# Altium footprint library Opto.PcbLib: 16 footprints
Each footprint in its own frame and in the unit in brackets; x right, y up, seen from the top. Pads: shape width x height; smd on the part's side, far side on the other; paste and mask are expansions set on the pad; w line width, h text height; cw(c..) or ccw(c..) is an arc to the next point about the centre after c.
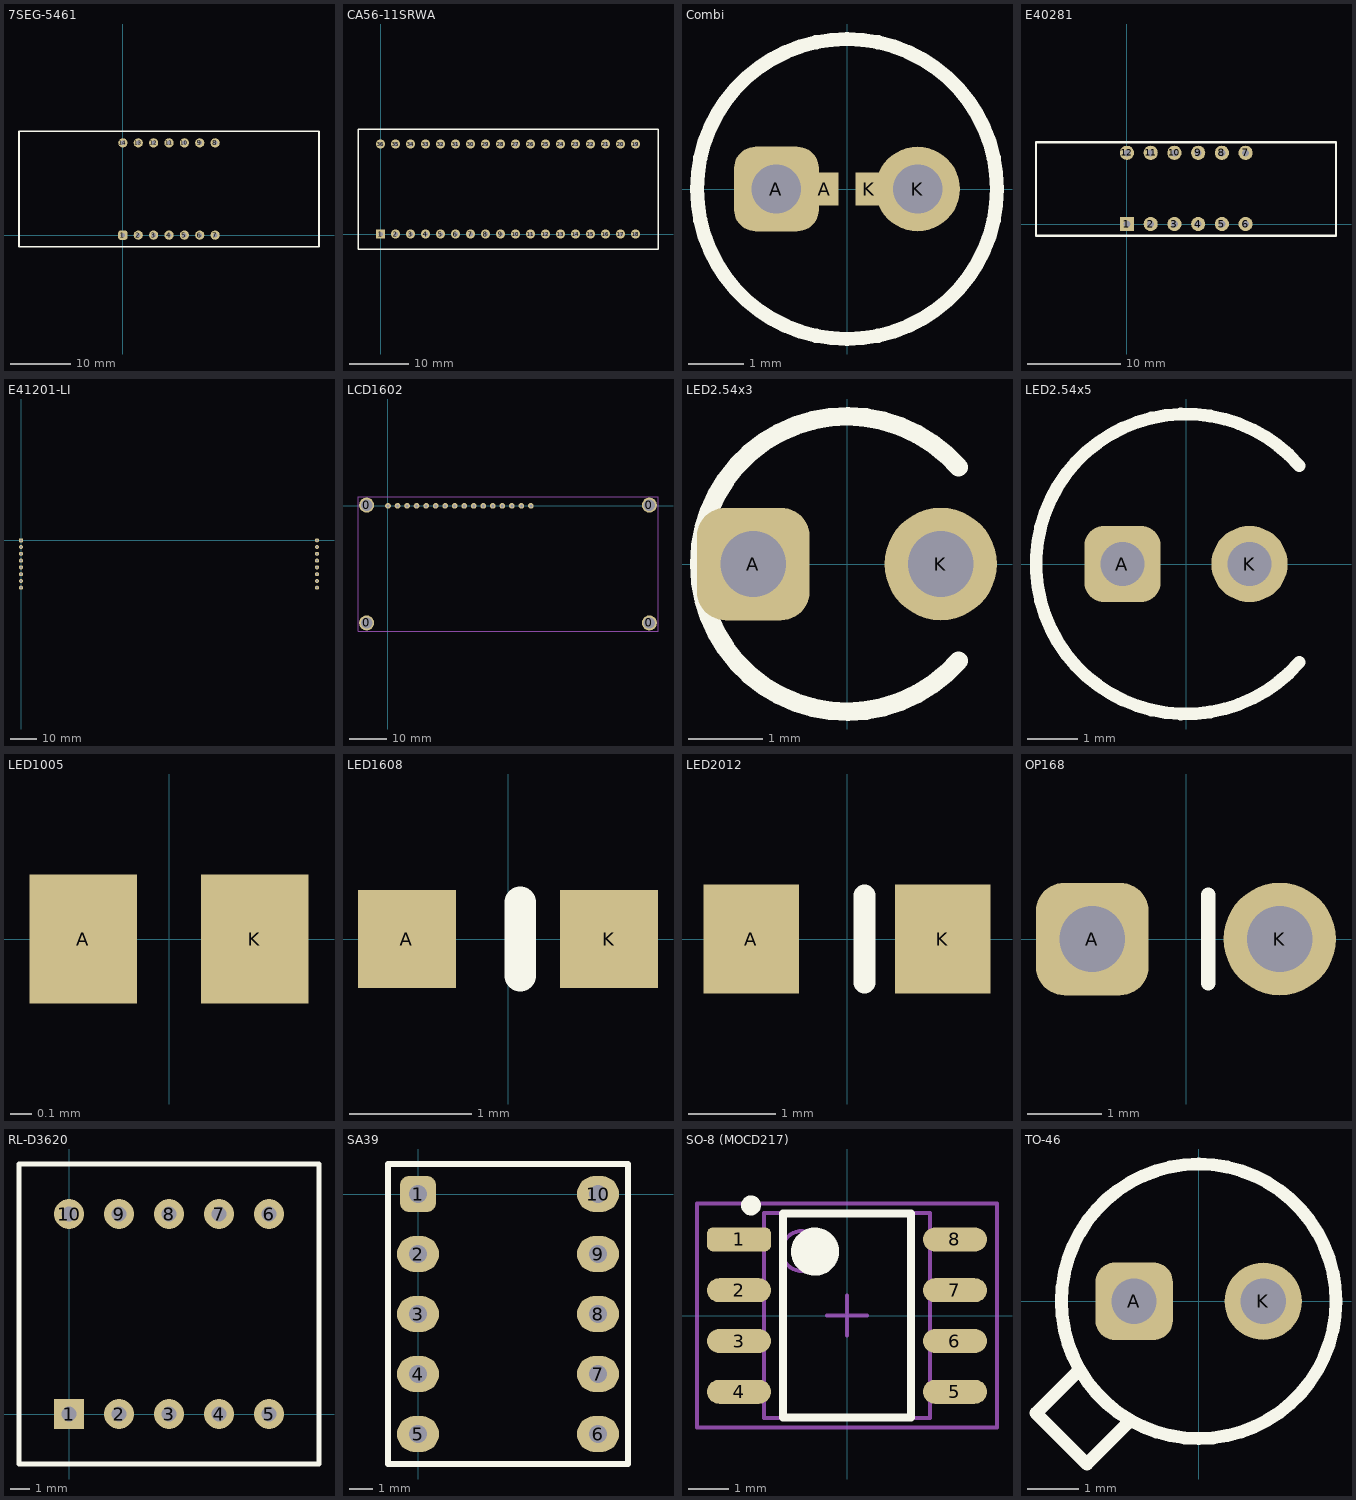
[diagram p0: the footprints below, top view; thin cyan lines are the x and y axes]

## 7SEG-5461 [mil] "0.56 inch Red 4 Digit 5461 LED Display 7 seg Common Anode"
height 307.09
pads (14):
  rrect50% 60x60 hole 30: 1(0,0)
  round 60 hole 30: 2(100,0) 3(200,0) 4(300,0) 5(400,0) 6(500,0) 7(600,0) 8(600,600) 9(500,600) 10(400,600) 11(300,600) 12(200,600) 13(100,600) 14(0,600)
Top Overlay:
  lines w10: -675,-75 1275,-75 1275,675 -675,675 -675,-75

## CA56-11SRWA [mil] "14.2mm(0.56inch) four digit numeric display"
height 318.9
pads (36):
  rect 60x60 hole 30: 1(0,0)
  round 60 hole 30: 2(100,0) 3(200,0) 4(300,0) 5(400,0) 6(500,0) 7(600,0) 8(700,0) 9(800,0) 10(900,0) 11(1000,0) 12(1100,0) 13(1200,0) 14(1300,0) 15(1400,0) 16(1500,0) 17(1600,0) 18(1700,0) 19(1700,600) 20(1600,600) 21(1500,600) 22(1400,600) 23(1300,600) 24(1200,600) 25(1100,600) 26(1000,600) 27(900,600) 28(800,600) 29(700,600) 30(600,600) 31(500,600) 32(400,600) 33(300,600) 34(200,600) 35(100,600) 36(0,600)
Top Overlay:
  lines w10: -150,-100 1850,-100 1850,700 -150,700 -150,-100
3D body: height 334.65, standoff 0, extent -150,-100 1850,700

## Combi [mil] "SMD+TH patern"
height 157.48
pads (4):
  rrect50% 60x60 hole 35: A(-50,0)
  rect 19.68x23.62 smd: A(-15.75,0) K(15.75,0)
  round 60 hole 35: K(50,0)
Top Overlay:
  circle w10: c0,0 r106.3

## E40281 [mil] "7mm (0.28'') four digit numeric display"
height 318.9
pads (12):
  rect 60x60 hole 30: 1(0,0)
  round 60 hole 30: 2(100,0) 3(200,0) 4(300,0) 5(400,0) 6(500,0) 7(500,300) 8(400,300) 9(300,300) 10(200,300) 11(100,300) 12(0,300)
Top Overlay:
  lines w10: -383.07,-49.21 880.71,-49.21 880.71,344.49 -383.07,344.49 -383.07,-49.21
3D body: height 228.35, standoff 0, extent -383.07,-49.21 880.71,344.49

## E41201-LI [mil] "7-segment LED clock display"
height 354.33
pads (16):
  rrect50% 60x60 hole 30: 1(0,0)
  round 60 hole 30: 2(0,-100) 3(0,-200) 4(0,-300) 5(0,-400) 6(0,-500) 7(0,-600) 8(0,-700) 9(4370.08,-700) 10(4370.08,-600) 11(4370.08,-500) 12(4370.08,-400) 13(4370.08,-300) 14(4370.08,-200) 15(4370.08,-100) 16(4370.08,0)
3D body: height 374.02, standoff 0, extent -177.17,-1153.54 4547.24,452.76

## LCD1602 [mil] "16x02 LCD"
height 433.07
pads (20):
  round 157.48 hole 118.11: 0(-224.41,-1228.35) 0(-224.41,7.87) 0(2744.09,-1228.35) 0(2744.09,7.87)
  round 60 hole 30: 1(0,0) 2(100,0) 3(200,0) 4(300,0) 5(400,0) 6(500,0) 7(600,0) 8(700,0) 9(800,0) 10(900,0) 11(1000,0) 12(1100,0) 13(1200,0) 14(1300,0) 15(1400,0) 16(1500,0)
Mechanical 1:
  lines w10: -314.96,98.43 2834.65,98.43 2834.65,-1318.9 -314.96,-1318.9 -314.96,98.43 ; -314.96,98.43 -314.96,98.43 ; -314.96,98.43 -314.96,98.43
3D body: height 433.07, standoff 0, extent -314.96,-1318.9 2834.65,98.43

## LED2.54x3 [mil] "LED 2.54 p-p 3x5mm (DxH)"
pads (2):
  rrect50% 60x60 hole 35: A(-50,0)
  round 60 hole 35: K(50,0)
Top Overlay:
  lines w10: 59.5,-51.57 cw(c0,0) 59.5,51.57
3D body: height 196.85, standoff 0, extent -78.74,-82.61 59.06,74.73

## LED2.54x5 [mil] "LED 2.54 p-p 5x8.6mm (DxH)"
pads (2):
  rrect50% 60x60 hole 35: A(-50,0)
  round 60 hole 35: K(50,0)
Top Overlay:
  lines w10: 89.26,-77.35 cw(c0,0) 89.26,77.35
3D body: height 338.58, standoff 0, extent -119.09,-118.11 95.47,114.12

## LED1005 [mm] "LED 1.0x0.5mm"
pads (2):
  rect 0.5x0.6 smd: A(-0.4,0) K(0.4,0)
3D body: height 0.1, standoff 0, extent -0.5,-0.25 0.5,0.25
3D body: height 0.4, standoff 0.1, extent -0.4,-0.25 0.4,0.25

## LED1608 [mm] "LED 1.6x0.8mm"
pads (2):
  rect 0.8x0.8 smd: A(-0.825,0) K(0.825,0)
Top Overlay:
  lines w0.254: 0.1,-0.3 0.1,0.3
3D body: height 0.1, standoff 0, extent -0.8,-0.4 0.8,0.4
3D body: height 0.4, standoff 0.1, extent -0.6,-0.4 0.6,0.4

## LED2012 [mm] "LED 2.0x1.2mm"
pads (2):
  rect 1.1x1.25 smd: A(-1.1,0) K(1.1,0)
Top Overlay:
  lines w0.254: 0.2,-0.5 0.2,0.5
3D body: height 0.1, standoff 0, extent -1,-0.625 1,0.625
3D body: height 0.4, standoff 0.1, extent -0.65,-0.625 0.65,0.625

## OP168 [mil] "2.54 p-p (1.52x4.06x3.24)mm"
height 157.48
pads (2):
  rrect50% 60x60 hole 35: A(-50,0)
  round 60 hole 35: K(50,0)
Top Overlay:
  lines w7.87: 11.81,-23.62 11.81,23.62
3D body: height 127.56, standoff 0, extent -78.74,-31.5 78.74,31.5

## RL-D3620 [mil] "Two digit numeric display"
height 318.9
pads (10):
  rect 60x60 hole 30: 1(0,0)
  round 60 hole 30: 2(100,0) 3(200,0) 4(300,0) 5(400,0) 6(400,400) 7(300,400) 8(200,400) 9(100,400) 10(0,400)
Top Overlay:
  lines w10: -100,-100 500,-100 500,500 -100,500 -100,-100
3D body: height 283.46, standoff 0, extent -100,-100 500,500

## SA39 [mil] "9.9mm (0.39INCH) SINGLE DIGIT NUMERIC DISPLAY"
pads (10):
  rrect50% 60x60 hole 30: 1(0,0)
  oval 70x60 hole 30: 2(0,-100) 3(0,-200) 4(0,-300) 5(0,-400) 6(300,-400) 7(300,-300) 8(300,-200) 9(300,-100) 10(300,0)
Top Overlay:
  lines w10: -50,-450 -50,50 350,50 350,-450 -50,-450
3D body: height 275.59, standoff 0, extent -50,-450 350,50

## SO-8 (MOCD217) [mm] "SOIC, 8-Leads, Body 5.1x4.2mm (max), Pitch 1.27mm, IPC Medium Density"
height 3.63
pads (8):
  rrect50% 1.6x0.6 smd: 1(-2.7,1.905)
  oval 1.6x0.6 smd: 2(-2.7,0.635) 3(-2.7,-0.635) 4(-2.7,-1.905) 5(2.7,-1.905) 6(2.7,-0.635) 7(2.7,0.635) 8(2.7,1.905)
Top Overlay:
  circle w0.25: c-2.4,2.755 r0.125
  circle w0.6: c-0.8,1.6 r0.3
  lines w0.2: -1.6,-2.55 -1.6,2.55 1.6,2.55 1.6,-2.55 -1.6,-2.55
Mechanical 13:
  circle w0.1: c-1.13,1.615 r0.5
  lines w0.1: -2.08,-2.565 -2.08,2.565 2.08,2.565 2.08,-2.565 -2.08,-2.565
Mechanical 15:
  lines w0.1: -0.5,0 0.5,0 ; 0,-0.5 0,0.5 ; -3.75,-2.8 -3.75,2.8 3.75,2.8 3.75,-2.8 -3.75,-2.8
3D body: height 3.63, standoff 0.1, extent -2.08,-2.565 2.08,2.565

## TO-46 [mil] "2.54 p-p 5.33x3.7mm (DxH)"
height 157.48
pads (2):
  rrect50% 60x60 hole 35: A(-50,0)
  round 60 hole 35: K(50,0)
Top Overlay:
  circle w10: c0,0 r106.3
  lines w10: -94.49,-55.12 -125.98,-86.61 -86.61,-125.98 -55.12,-94.49
3D body: height 29.92, standoff 0, extent -110.24,-106.3 101.52,105.88